# EAGLE library part LTC4071 (library Oles komponentbibliotek)
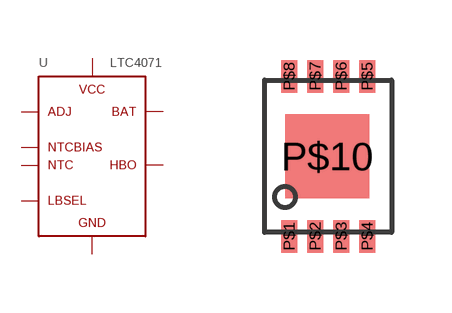
[diagram p21: symbol with the pads of MSOP-8-SINK; footprint MSOP-8-SINK]

Designator prefix -

## LTC4071  [MSOP-8-SINK]
P$1  NTCBIAS  pas
P$2  NTC  pas
P$3  ADJ  pas
P$4  P$1  pwr
P$5  LBSEL  pas
P$6  GND  pwr
P$7  BAT  pwr
P$8  VCC  pwr
P$10  GND  pwr

## Footprint MSOP-8-SINK (pad centres in mm)
smd 0.406 x 0.813: P$1 -0.65,-2; P$2 0,-2; P$3 0.65,-2; P$4 1.3,-2; P$5 1.3,2; P$6 0.65,2; P$7 0,2; P$8 -0.65,2
smd 2.1 x 2.1: P$10 0.3,0